# EAGLE library part LTC1540 (library kitt.ic)
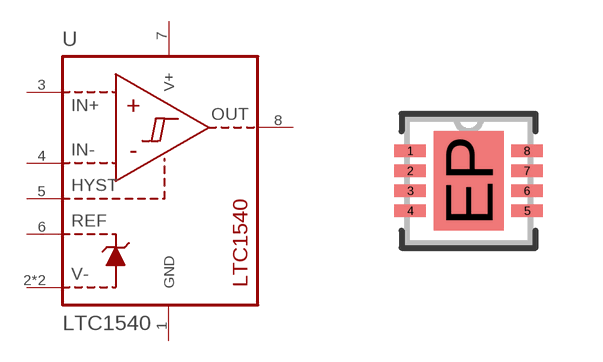
[diagram p11: symbol with the pads of DFN-8_DD; footprint DFN-8_DD]

Designator prefix -

## LTC1540CDD (CC: XYX17)  [DFN-8_DD]
1  GND
2  V-
3  IN+
4  IN-
5  HYST
6  REF
7  V+
8  OUT
EP  V-

## Footprint DFN-8_DD (pad centres in mm)
smd 0.787 x 0.305: 1 -1.46,0.75; 2 -1.46,0.25; 3 -1.46,-0.25; 4 -1.46,-0.75; 5 1.46,-0.75; 6 1.46,-0.25; 7 1.46,0.25; 8 1.46,0.75
smd 1.753 x 2.489: EP 0,0